# Altium footprint library ICs.PcbLib: 52 footprints (part 1 of 4)
Each footprint in its own frame and in the unit in brackets; x right, y up, seen from the top. Pads: shape width x height; smd on the part's side, far side on the other; paste and mask are expansions set on the pad; w line width, h text height; cw(c..) or ccw(c..) is an arc to the next point about the centre after c.
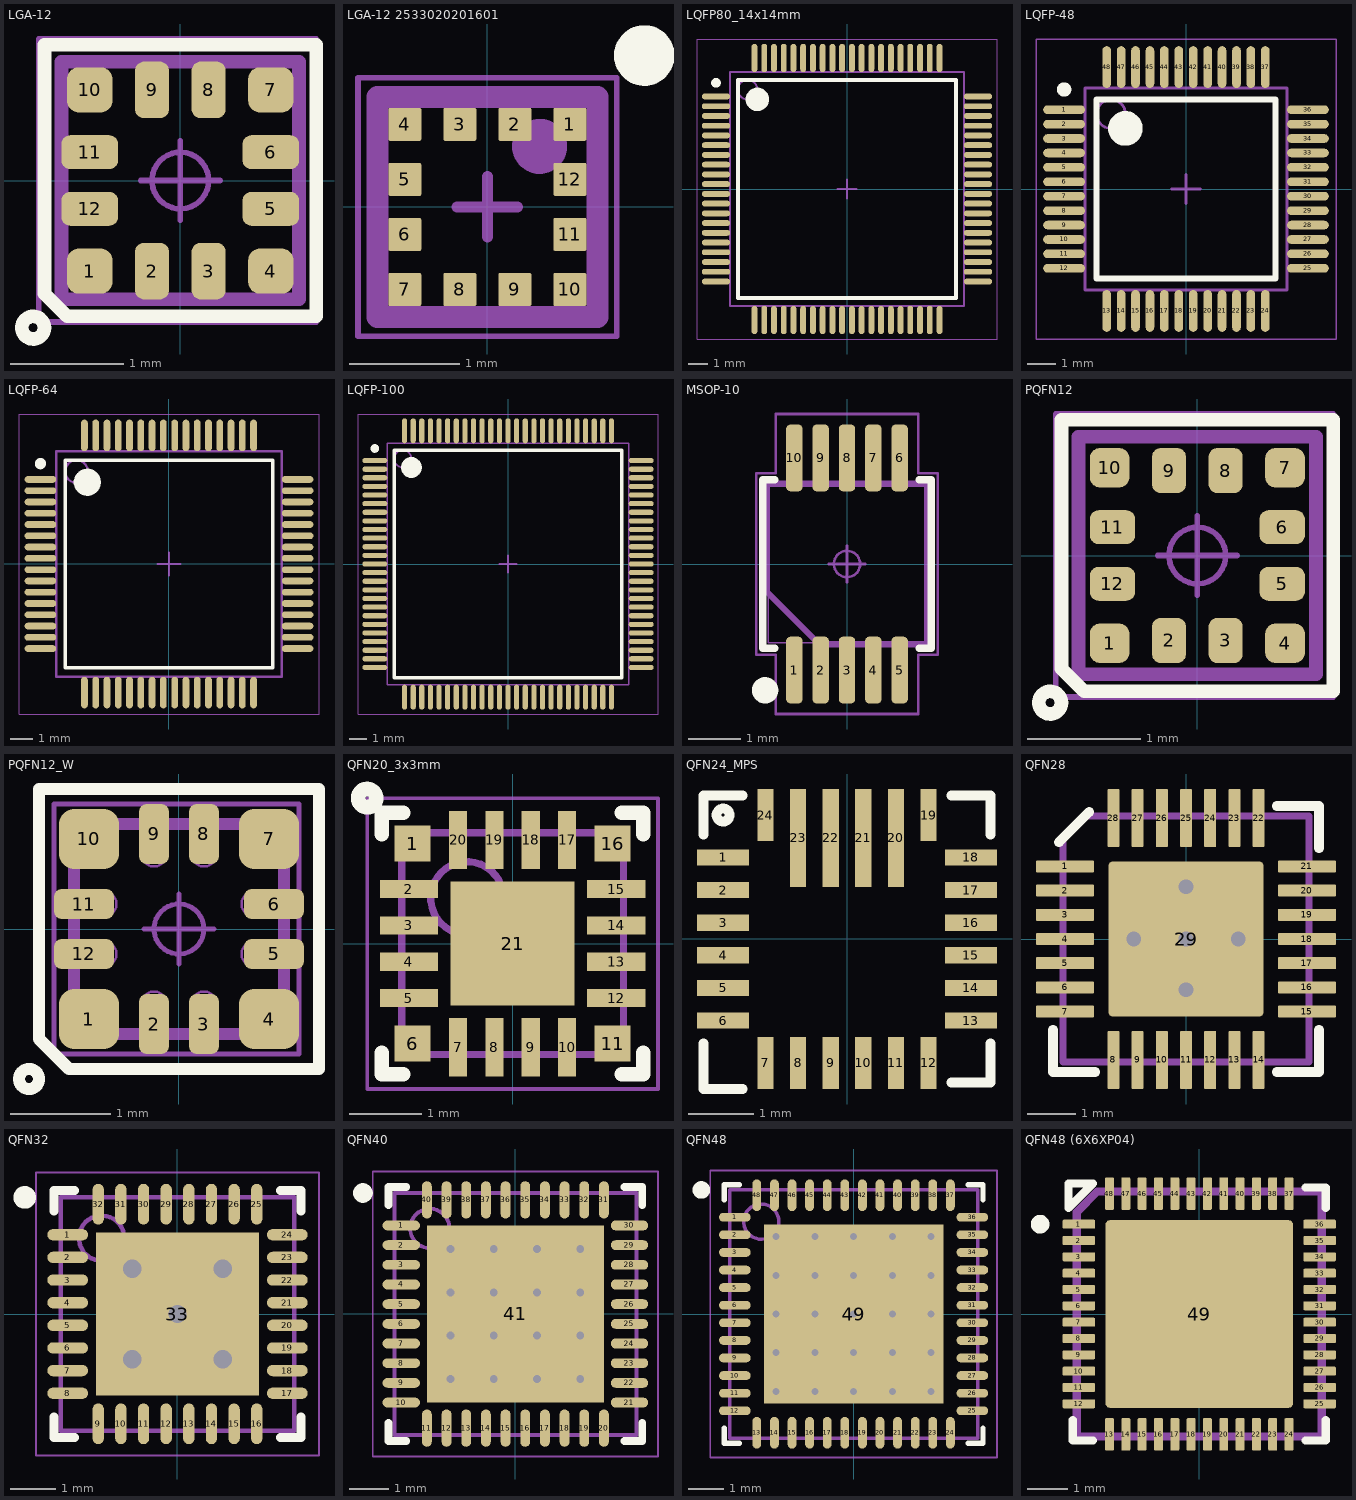
[diagram p0: the footprints below, top view; thin cyan lines are the x and y axes]

## LGA-12 [mm] "2x2 mm accelerometer"
pads (12):
  rrect51% 0.4x0.4 smd: 1(-0.8,-0.8) 4(0.8,-0.8) 7(0.8,0.8) 10(-0.8,0.8)
  rrect51% 0.3x0.5 smd: 2(-0.25,-0.8) 3(0.25,-0.8) 8(0.25,0.8) 9(-0.25,0.8)
  rrect51% 0.5x0.3 smd: 5(0.8,-0.25) 6(0.8,0.25) 11(-0.8,0.25) 12(-0.8,-0.25)
Top Overlay:
  circle w0.12: c-1.3,-1.3 r0.1
  lines w0.12: -1.2,-1 -1.2,1.2 1.2,1.2 1.2,-1.2 -1,-1.2 -1.2,-1
Mechanical 11:
  lines w0.12: -1.05,-1.05 -1.05,1.05 1.05,1.05 1.05,-1.05 -1.05,-1.05
Mechanical 12:
  lines w0.025: -1,-1 -1,1 1,1 1,-1 -1,-1 ; -0.9,-0.375 -0.75,-0.375 ccw(c-0.75,-0.25) -0.75,-0.125 -0.9,-0.125 -0.9,-0.375 ; -0.9,0.125 -0.75,0.125 ccw(c-0.75,0.25) -0.75,0.375 -0.9,0.375 -0.9,0.125 ; -0.875,-0.9 -0.875,-0.75 cw(c-0.75,-0.75) -0.625,-0.75 -0.625,-0.9 -0.875,-0.9 ; -0.875,0.75 ccw(c-0.75,0.75) -0.625,0.75 -0.625,0.9 -0.875,0.9 -0.875,0.75 ; -0.375,-0.9 -0.375,-0.75 cw(c-0.25,-0.75) -0.125,-0.75 -0.125,-0.9 -0.375,-0.9 ; -0.375,0.75 ccw(c-0.25,0.75) -0.125,0.75 -0.125,0.9 -0.375,0.9 -0.375,0.75 ; 0.125,-0.9 0.125,-0.75 cw(c0.25,-0.75) 0.375,-0.75 0.375,-0.9 0.125,-0.9 ; 0.125,0.75 ccw(c0.25,0.75) 0.375,0.75 0.375,0.9 0.125,0.9 0.125,0.75 ; 0.625,-0.9 0.625,-0.75 cw(c0.75,-0.75) 0.875,-0.75 0.875,-0.9 0.625,-0.9 ; 0.625,0.75 ccw(c0.75,0.75) 0.875,0.75 0.875,0.9 0.625,0.9 0.625,0.75 ; 0.75,-0.375 cw(c0.75,-0.25) 0.75,-0.125 0.9,-0.125 0.9,-0.375 0.75,-0.375 ; 0.75,0.125 cw(c0.75,0.25) 0.75,0.375 0.9,0.375 0.9,0.125 0.75,0.125
Mechanical 15:
  circle w0.05: c0,0 r0.25
  lines w0.05: -0.35,0 0.35,0 ; 0,-0.35 0,0.35 ; -1.25,-1.25 -1.25,1.25 1.2,1.25 1.2,-1.25 -1.25,-1.25
3D body "PQFN12P50_200X200X70L27X25.STEP": height 0.7, standoff 0, extent -1,-1 1,1

## LGA-12 2533020201601 [mm]
pads (12):
  rrect10% 0.3x0.3 smd paste-2539.97 mask+0.03: 1(0.75,0.75) 2(0.25,0.75) 3(-0.25,0.75) 4(-0.75,0.75) 5(-0.75,0.25) 6(-0.75,-0.25) 7(-0.75,-0.75) 8(-0.25,-0.75) 9(0.25,-0.75) 10(0.75,-0.75) 11(0.75,-0.25) 12(0.75,0.25)
Top Overlay:
  circle w0.3: c1.425,1.375 r0.125
Top Paste:
  circle w0.15: c-0.75,0.75 r0.075
  circle w0.15: c-0.25,-0.75 r0.075
  circle w0.15: c0.75,-0.75 r0.075
  circle w0.15: c0.25,-0.75 r0.075
  circle w0.15: c0.75,0.75 r0.075
  circle w0.15: c0.25,0.75 r0.075
  circle w0.15: c-0.25,0.75 r0.075
  circle w0.15: c0.75,0.25 r0.075
  circle w0.15: c0.75,-0.25 r0.075
  circle w0.15: c-0.75,-0.75 r0.075
  circle w0.15: c-0.75,0.25 r0.075
  circle w0.15: c-0.75,-0.25 r0.075
Top Courtyard:
  lines w0.05: -1.175,-1.175 -1.175,1.175 1.175,1.175 1.175,-1.175 -1.175,-1.175
Top Component Center:
  lines w0.1: -0.275,0 0.275,0 ; 0,-0.275 0,0.275
Top Component Outline:
  lines w0.05: -1,-1 1,-1 1,1 -1,1 -1,-1
Top Assembly:
  circle w0.3: c0.475,0.55 r0.1
  lines w0.2: -1,-1 -1,1 1,1 1,-1 -1,-1
Top Designator:
  text ".Designator" at -2.435,-0.25 h1.3
Top Value:
  text ".Comment" at -2.213,-0.335 h1.3
3D body "User Library-lga-2x2x0_9.step": height 0.96, standoff 0.01, extent -1,-1 1,1

## LQFP80_14x14mm [mm] "TSQFP, 80-Leads, Body 12,00x12,00mm, Pitch 0,50mm, IPC Medium Density"
height 1.6
pads (80):
  oval 1.45x0.3 smd: 1(-6.725,4.75) 2(-6.725,4.25) 3(-6.725,3.75) 4(-6.725,3.25) 5(-6.725,2.75) 6(-6.725,2.25) 7(-6.725,1.75) 8(-6.725,1.25) 9(-6.725,0.75) 10(-6.725,0.25) 11(-6.725,-0.25) 12(-6.725,-0.75) 13(-6.725,-1.25) 14(-6.725,-1.75) 15(-6.725,-2.25) 16(-6.725,-2.75) 17(-6.725,-3.25) 18(-6.725,-3.75) 19(-6.725,-4.25) 20(-6.725,-4.75) 41(6.725,-4.75) 42(6.725,-4.25) 43(6.725,-3.75) 44(6.725,-3.25) 45(6.725,-2.75) 46(6.725,-2.25) 47(6.725,-1.75) 48(6.725,-1.25) 49(6.725,-0.75) 50(6.725,-0.25) 51(6.725,0.25) 52(6.725,0.75) 53(6.725,1.25) 54(6.725,1.75) 55(6.725,2.25) 56(6.725,2.75) 57(6.725,3.25) 58(6.725,3.75) 59(6.725,4.25) 60(6.725,4.75)
  oval 0.3x1.45 smd: 21(-4.75,-6.725) 22(-4.25,-6.725) 23(-3.75,-6.725) 24(-3.25,-6.725) 25(-2.75,-6.725) 26(-2.25,-6.725) 27(-1.75,-6.725) 28(-1.25,-6.725) 29(-0.75,-6.725) 30(-0.25,-6.725) 31(0.25,-6.725) 32(0.75,-6.725) 33(1.25,-6.725) 34(1.75,-6.725) 35(2.25,-6.725) 36(2.75,-6.725) 37(3.25,-6.725) 38(3.75,-6.725) 39(4.25,-6.725) 40(4.75,-6.725) 61(4.75,6.725) 62(4.25,6.725) 63(3.75,6.725) 64(3.25,6.725) 65(2.75,6.725) 66(2.25,6.725) 67(1.75,6.725) 68(1.25,6.725) 69(0.75,6.725) 70(0.25,6.725) 71(-0.25,6.725) 72(-0.75,6.725) 73(-1.25,6.725) 74(-1.75,6.725) 75(-2.25,6.725) 76(-2.75,6.725) 77(-3.25,6.725) 78(-3.75,6.725) 79(-4.25,6.725) 80(-4.75,6.725)
Top Overlay:
  circle w0.6: c-4.6,4.6 r0.3
  circle w0.25: c-6.725,5.45 r0.125
  lines w0.2: -5.6,-5.6 5.6,-5.6 5.6,5.6 -5.6,5.6 -5.6,-5.6
Mechanical 13:
  circle w0.1: c-5.1,5.1 r0.5
  lines w0.1: -6,-6 6,-6 6,6 -6,6 -6,-6
Mechanical 15:
  lines w0.05: -7.7,-7.7 7.7,-7.7 7.7,7.7 -7.7,7.7 -7.7,-7.7
  lines w0.1: -0.5,0 0.5,0 ; 0,-0.5 0,0.5
3D body "LQFP-80_12x12mm_P0.5mm.step": height 1.5, standoff 0, extent -7,-7 7,7

## LQFP-48 [mm] "TSQFP, 48-Leads, Body 7,00x7,00mm, Pitch 0,50mm, IPC Medium Density"
height 1.6
pads (48):
  oval 1.45x0.3 smd: 1(-4.225,2.75) 2(-4.225,2.25) 3(-4.225,1.75) 4(-4.225,1.25) 5(-4.225,0.75) 6(-4.225,0.25) 7(-4.225,-0.25) 8(-4.225,-0.75) 9(-4.225,-1.25) 10(-4.225,-1.75) 11(-4.225,-2.25) 12(-4.225,-2.75) 25(4.225,-2.75) 26(4.225,-2.25) 27(4.225,-1.75) 28(4.225,-1.25) 29(4.225,-0.75) 30(4.225,-0.25) 31(4.225,0.25) 32(4.225,0.75) 33(4.225,1.25) 34(4.225,1.75) 35(4.225,2.25) 36(4.225,2.75)
  oval 0.3x1.45 smd: 13(-2.75,-4.225) 14(-2.25,-4.225) 15(-1.75,-4.225) 16(-1.25,-4.225) 17(-0.75,-4.225) 18(-0.25,-4.225) 19(0.25,-4.225) 20(0.75,-4.225) 21(1.25,-4.225) 22(1.75,-4.225) 23(2.25,-4.225) 24(2.75,-4.225) 37(2.75,4.225) 38(2.25,4.225) 39(1.75,4.225) 40(1.25,4.225) 41(0.75,4.225) 42(0.25,4.225) 43(-0.25,4.225) 44(-0.75,4.225) 45(-1.25,4.225) 46(-1.75,4.225) 47(-2.25,4.225) 48(-2.75,4.225)
Top Overlay:
  circle w0.6: c-2.1,2.1 r0.3
  circle w0.25: c-4.225,3.45 r0.125
  lines w0.2: -3.1,-3.1 3.1,-3.1 3.1,3.1 -3.1,3.1 -3.1,-3.1
Mechanical 13:
  circle w0.1: c-2.6,2.6 r0.5
  lines w0.1: -3.5,-3.5 3.5,-3.5 3.5,3.5 -3.5,3.5 -3.5,-3.5
Mechanical 15:
  lines w0.05: -5.2,-5.2 5.2,-5.2 5.2,5.2 -5.2,5.2 -5.2,-5.2
  lines w0.1: -0.5,0 0.5,0 ; 0,-0.5 0,0.5
3D body "LQFP-48_7x7mm_P0.5mm.step": height 1.5, standoff 0, extent -4.5,-4.5 4.5,4.5

## LQFP-64 [mm] "TSQFP, 64-Leads, Body 10,00x10,00mm, Pitch 0,50mm, IPC Medium Density"
height 1.2
pads (64):
  oval 1.4x0.3 smd: 1(-5.7,3.75) 2(-5.7,3.25) 3(-5.7,2.75) 4(-5.7,2.25) 5(-5.7,1.75) 6(-5.7,1.25) 7(-5.7,0.75) 8(-5.7,0.25) 9(-5.7,-0.25) 10(-5.7,-0.75) 11(-5.7,-1.25) 12(-5.7,-1.75) 13(-5.7,-2.25) 14(-5.7,-2.75) 15(-5.7,-3.25) 16(-5.7,-3.75) 33(5.7,-3.75) 34(5.7,-3.25) 35(5.7,-2.75) 36(5.7,-2.25) 37(5.7,-1.75) 38(5.7,-1.25) 39(5.7,-0.75) 40(5.7,-0.25) 41(5.7,0.25) 42(5.7,0.75) 43(5.7,1.25) 44(5.7,1.75) 45(5.7,2.25) 46(5.7,2.75) 47(5.7,3.25) 48(5.7,3.75)
  oval 0.3x1.4 smd: 17(-3.75,-5.7) 18(-3.25,-5.7) 19(-2.75,-5.7) 20(-2.25,-5.7) 21(-1.75,-5.7) 22(-1.25,-5.7) 23(-0.75,-5.7) 24(-0.25,-5.7) 25(0.25,-5.7) 26(0.75,-5.7) 27(1.25,-5.7) 28(1.75,-5.7) 29(2.25,-5.7) 30(2.75,-5.7) 31(3.25,-5.7) 32(3.75,-5.7) 49(3.75,5.7) 50(3.25,5.7) 51(2.75,5.7) 52(2.25,5.7) 53(1.75,5.7) 54(1.25,5.7) 55(0.75,5.7) 56(0.25,5.7) 57(-0.25,5.7) 58(-0.75,5.7) 59(-1.25,5.7) 60(-1.75,5.7) 61(-2.25,5.7) 62(-2.75,5.7) 63(-3.25,5.7) 64(-3.75,5.7)
Top Overlay:
  circle w0.6: c-3.625,3.625 r0.3
  circle w0.25: c-5.7,4.45 r0.125
  lines w0.15: -4.6,-4.6 4.6,-4.6 4.6,4.6 -4.6,4.6 -4.6,-4.6
Mechanical 13:
  circle w0.1: c-4.1,4.1 r0.5
  lines w0.1: -5,-5 5,-5 5,5 -5,5 -5,-5
Mechanical 15:
  lines w0.05: -6.65,-6.65 6.65,-6.65 6.65,6.65 -6.65,6.65 -6.65,-6.65
  lines w0.1: -0.5,0 0.5,0 ; 0,-0.5 0,0.5
3D body "LQFP-64_10x10mm_P0.5mm.step": height 1.5, standoff 0, extent -6,-6 6,6

## LQFP-100 [mm] "TSQFP, 100-Leads, Body 14,00x14,00mm, Pitch 0,50mm, IPC Medium Density"
height 1.6
pads (100):
  oval 1.45x0.3 smd: 1(-7.725,6) 2(-7.725,5.5) 3(-7.725,5) 4(-7.725,4.5) 5(-7.725,4) 6(-7.725,3.5) 7(-7.725,3) 8(-7.725,2.5) 9(-7.725,2) 10(-7.725,1.5) 11(-7.725,1) 12(-7.725,0.5) 13(-7.725,0) 14(-7.725,-0.5) 15(-7.725,-1) 16(-7.725,-1.5) 17(-7.725,-2) 18(-7.725,-2.5) 19(-7.725,-3) 20(-7.725,-3.5) 21(-7.725,-4) 22(-7.725,-4.5) 23(-7.725,-5) 24(-7.725,-5.5) 25(-7.725,-6) 51(7.725,-6) 52(7.725,-5.5) 53(7.725,-5) 54(7.725,-4.5) 55(7.725,-4) 56(7.725,-3.5) 57(7.725,-3) 58(7.725,-2.5) 59(7.725,-2) 60(7.725,-1.5) 61(7.725,-1) 62(7.725,-0.5) 63(7.725,0) 64(7.725,0.5) 65(7.725,1) 66(7.725,1.5) 67(7.725,2) 68(7.725,2.5) 69(7.725,3) 70(7.725,3.5) 71(7.725,4) 72(7.725,4.5) 73(7.725,5) 74(7.725,5.5) 75(7.725,6)
  oval 0.3x1.45 smd: 26(-6,-7.725) 27(-5.5,-7.725) 28(-5,-7.725) 29(-4.5,-7.725) 30(-4,-7.725) 31(-3.5,-7.725) 32(-3,-7.725) 33(-2.5,-7.725) 34(-2,-7.725) 35(-1.5,-7.725) 36(-1,-7.725) 37(-0.5,-7.725) 38(0,-7.725) 39(0.5,-7.725) 40(1,-7.725) 41(1.5,-7.725) 42(2,-7.725) 43(2.5,-7.725) 44(3,-7.725) 45(3.5,-7.725) 46(4,-7.725) 47(4.5,-7.725) 48(5,-7.725) 49(5.5,-7.725) 50(6,-7.725) 76(6,7.725) 77(5.5,7.725) 78(5,7.725) 79(4.5,7.725) 80(4,7.725) 81(3.5,7.725) 82(3,7.725) 83(2.5,7.725) 84(2,7.725) 85(1.5,7.725) 86(1,7.725) 87(0.5,7.725) 88(0,7.725) 89(-0.5,7.725) 90(-1,7.725) 91(-1.5,7.725) 92(-2,7.725) 93(-2.5,7.725) 94(-3,7.725) 95(-3.5,7.725) 96(-4,7.725) 97(-4.5,7.725) 98(-5,7.725) 99(-5.5,7.725) 100(-6,7.725)
Top Overlay:
  circle w0.25: c-7.725,6.7 r0.125
  circle w0.6: c-5.6,5.6 r0.3
  lines w0.2: -6.6,-6.6 -6.6,6.6 6.6,6.6 6.6,-6.6 -6.6,-6.6
Mechanical 13:
  circle w0.1: c-6.1,6.1 r0.5
  lines w0.1: -7,-7 -7,7 7,7 7,-7 -7,-7
Mechanical 15:
  lines w0.05: -8.7,-8.7 -8.7,8.7 8.7,8.7 8.7,-8.7 -8.7,-8.7
  lines w0.1: -0.5,0 0.5,0 ; 0,-0.5 0,0.5
3D body "LQFP-100_14x14mm_P0.5mm.step": height 1.5, standoff 0, extent -8,-8 8,8

## MSOP-10 [mm] "Small Outline Pkg (SOP), 0.50 mm pitch; 10 pin, 3.00 mm L X 3.00 mm W X 1.10 mm H body"
height 1.1
pads (10):
  rrect52% 0.31x1.27 smd: 1(-1,-2.015) 2(-0.5,-2.015) 3(0,-2.015) 4(0.5,-2.015) 5(1,-2.015) 6(1,2.015) 7(0.5,2.015) 8(0,2.015) 9(-0.5,2.015) 10(-1,2.015)
Top Overlay:
  circle w0.25: c-1.555,-2.4 r0.125
  lines w0.15: -1.38,-1.6 -1.6,-1.6 -1.6,1.6 -1.38,1.6 ; 1.38,-1.6 1.6,-1.6 1.6,1.6 1.38,1.6
Mechanical 9:
  lines w0.12: -1.525,-0.525 -1.525,1.525 1.525,1.525 1.525,-1.525 -0.525,-1.525 -1.525,-0.525
Mechanical 15:
  lines w0.05: -1.725,-1.725 -1.355,-1.725 -1.355,-2.85 1.355,-2.85 1.355,-1.725 1.725,-1.725 1.725,1.725 1.355,1.725 1.355,2.85 -1.355,2.85 -1.355,1.725 -1.725,1.725 -1.725,-1.725
Bottom Courtyard:
  circle w0.05: c0,0 r0.25
  lines w0.05: -0.35,0 0.35,0 ; 0,-0.35 0,0.35
Bottom Value:
  lines w0.025: -1.5,-1.5 1.5,-1.5 1.5,1.5 -1.5,1.5 -1.5,-1.5 ; -1.11,-2.425 -1.11,-1.825 -0.89,-1.825 -0.89,-2.425 -1.11,-2.425 ; -1.11,1.825 -1.11,2.425 -0.89,2.425 -0.89,1.825 -1.11,1.825 ; -0.61,-2.425 -0.61,-1.825 -0.39,-1.825 -0.39,-2.425 -0.61,-2.425 ; -0.61,1.825 -0.61,2.425 -0.39,2.425 -0.39,1.825 -0.61,1.825 ; -0.11,-2.425 -0.11,-1.825 0.11,-1.825 0.11,-2.425 -0.11,-2.425 ; -0.11,1.825 -0.11,2.425 0.11,2.425 0.11,1.825 -0.11,1.825 ; 0.39,-2.425 0.39,-1.825 0.61,-1.825 0.61,-2.425 0.39,-2.425 ; 0.39,1.825 0.39,2.425 0.61,2.425 0.61,1.825 0.39,1.825 ; 0.89,-2.425 0.89,-1.825 1.11,-1.825 1.11,-2.425 0.89,-2.425 ; 0.89,1.825 0.89,2.425 1.11,2.425 1.11,1.825 0.89,1.825
3D body "MSOP-10.STEP": height 1.1, standoff 0, extent -1.5,-2.425 1.5,2.425

## PQFN12 [mm] "Pullback Quad Flat No-Lead (PQFN), 0.50 mm pitch; square, 4 pin X 2 pin, 2.00 mm L X 2.00 mm W X 0.70 mm H body"
height 0.7
pads (12):
  rrect51% 0.35x0.35 smd: 1(-0.775,-0.775) 4(0.775,-0.775) 7(0.775,0.775) 10(-0.775,0.775)
  rrect51% 0.3x0.4 smd: 2(-0.25,-0.75) 3(0.25,-0.75) 8(0.25,0.75) 9(-0.25,0.75)
  rrect51% 0.4x0.3 smd: 5(0.75,-0.25) 6(0.75,0.25) 11(-0.75,0.25) 12(-0.75,-0.25)
Top Overlay:
  circle w0.12: c-1.3,-1.3 r0.1
  lines w0.12: -1.2,-1 -1,-1.2 1.2,-1.2 1.2,1.2 -1.2,1.2 -1.2,-1
Mechanical 11:
  lines w0.12: -1.05,-1.05 1.05,-1.05 1.05,1.05 -1.05,1.05 -1.05,-1.05
Mechanical 12:
  lines w0.025: -1,-1 1,-1 1,1 -1,1 -1,-1 ; -0.9,-0.375 -0.9,-0.125 -0.75,-0.125 cw(c-0.75,-0.25) -0.75,-0.375 -0.9,-0.375 ; -0.9,0.125 -0.9,0.375 -0.75,0.375 cw(c-0.75,0.25) -0.75,0.125 -0.9,0.125 ; -0.875,-0.9 -0.625,-0.9 -0.625,-0.75 ccw(c-0.75,-0.75) -0.875,-0.75 -0.875,-0.9 ; -0.875,0.75 ccw(c-0.75,0.75) -0.625,0.75 -0.625,0.9 -0.875,0.9 -0.875,0.75 ; -0.375,-0.9 -0.125,-0.9 -0.125,-0.75 ccw(c-0.25,-0.75) -0.375,-0.75 -0.375,-0.9 ; -0.375,0.75 ccw(c-0.25,0.75) -0.125,0.75 -0.125,0.9 -0.375,0.9 -0.375,0.75 ; 0.125,-0.9 0.375,-0.9 0.375,-0.75 ccw(c0.25,-0.75) 0.125,-0.75 0.125,-0.9 ; 0.125,0.75 ccw(c0.25,0.75) 0.375,0.75 0.375,0.9 0.125,0.9 0.125,0.75 ; 0.625,-0.9 0.875,-0.9 0.875,-0.75 ccw(c0.75,-0.75) 0.625,-0.75 0.625,-0.9 ; 0.625,0.75 ccw(c0.75,0.75) 0.875,0.75 0.875,0.9 0.625,0.9 0.625,0.75 ; 0.75,-0.375 cw(c0.75,-0.25) 0.75,-0.125 0.9,-0.125 0.9,-0.375 0.75,-0.375 ; 0.75,0.125 cw(c0.75,0.25) 0.75,0.375 0.9,0.375 0.9,0.125 0.75,0.125
Mechanical 15:
  circle w0.05: c0,0 r0.25
  lines w0.05: -0.35,0 0.35,0 ; 0,-0.35 0,0.35 ; -1.25,-1.25 1.2,-1.25 1.2,1.25 -1.25,1.25 -1.25,-1.25
3D body "PQFN12P50_200X200X70L27X25.STEP": height 0.7, standoff 0, extent -1,-1 1,1

## PQFN12_W [mm]
pads (12):
  rrect51% 0.6x0.6 smd: 1(-0.9,-0.9) 4(0.9,-0.9) 7(0.9,0.9) 10(-0.9,0.9)
  rrect51% 0.3x0.6 smd: 2(-0.25,-0.95) 3(0.25,-0.95) 8(0.25,0.95) 9(-0.25,0.95)
  rrect51% 0.6x0.3 smd: 5(0.95,-0.25) 6(0.95,0.25) 11(-0.95,0.25) 12(-0.95,-0.25)
Top Overlay:
  circle w0.12: c-1.5,-1.5 r0.1
  lines w0.12: -1.4,-1.1 -1.4,1.4 1.4,1.4 1.4,-1.4 -1.1,-1.4 -1.4,-1.1
Mechanical 11:
  lines w0.12: -1.05,-1.05 -1.05,1.05 1.05,1.05 1.05,-1.05 -1.05,-1.05
Mechanical 12:
  lines w0.025: -1,-1 -1,1 1,1 1,-1 -1,-1 ; -0.9,-0.375 -0.75,-0.375 ccw(c-0.75,-0.25) -0.75,-0.125 -0.9,-0.125 -0.9,-0.375 ; -0.9,0.125 -0.75,0.125 ccw(c-0.75,0.25) -0.75,0.375 -0.9,0.375 -0.9,0.125 ; -0.875,-0.9 -0.875,-0.75 cw(c-0.75,-0.75) -0.625,-0.75 -0.625,-0.9 -0.875,-0.9 ; -0.875,0.75 ccw(c-0.75,0.75) -0.625,0.75 -0.625,0.9 -0.875,0.9 -0.875,0.75 ; -0.375,-0.9 -0.375,-0.75 cw(c-0.25,-0.75) -0.125,-0.75 -0.125,-0.9 -0.375,-0.9 ; -0.375,0.75 ccw(c-0.25,0.75) -0.125,0.75 -0.125,0.9 -0.375,0.9 -0.375,0.75 ; 0.125,-0.9 0.125,-0.75 cw(c0.25,-0.75) 0.375,-0.75 0.375,-0.9 0.125,-0.9 ; 0.125,0.75 ccw(c0.25,0.75) 0.375,0.75 0.375,0.9 0.125,0.9 0.125,0.75 ; 0.625,-0.9 0.625,-0.75 cw(c0.75,-0.75) 0.875,-0.75 0.875,-0.9 0.625,-0.9 ; 0.625,0.75 ccw(c0.75,0.75) 0.875,0.75 0.875,0.9 0.625,0.9 0.625,0.75 ; 0.75,-0.375 cw(c0.75,-0.25) 0.75,-0.125 0.9,-0.125 0.9,-0.375 0.75,-0.375 ; 0.75,0.125 cw(c0.75,0.25) 0.75,0.375 0.9,0.375 0.9,0.125 0.75,0.125
Mechanical 15:
  circle w0.05: c0,0 r0.25
  lines w0.05: -0.35,0 0.35,0 ; 0,-0.35 0,0.35 ; -1.25,-1.25 -1.25,1.25 1.2,1.25 1.2,-1.25 -1.25,-1.25
3D body "PQFN12P50_200X200X70L27X25.STEP": height 0.7, standoff 0, extent -1,-1 1,1

## QFN20_3x3mm [mm] "QFN, 20-Leads, Body 3,00x3,00mm, Pitch 0,50mm, Thermal Pad 1,70x1,70mm, IPC Medium Density"
height 0.6
pads (21):
  rect 0.5x0.5 smd: 1(-1.375,1.375) 6(-1.375,-1.375) 11(1.375,-1.375) 16(1.375,1.375)
  rect 0.8x0.25 smd: 2(-1.425,0.75) 3(-1.425,0.25) 4(-1.425,-0.25) 5(-1.425,-0.75) 12(1.425,-0.75) 13(1.425,-0.25) 14(1.425,0.25) 15(1.425,0.75)
  rect 0.25x0.8 smd: 7(-0.75,-1.425) 8(-0.25,-1.425) 9(0.25,-1.425) 10(0.75,-1.425) 17(0.75,1.425) 18(0.25,1.425) 19(-0.25,1.425) 20(-0.75,1.425)
  rect 1.7x1.7 smd: 21(0,0)
Top Overlay:
  circle w0.2: c-2,2 r0.125
  lines w0.2: -1.8,-1.5 -1.8,-1.8 -1.5,-1.8 ; -1.8,1.5 -1.8,1.8 -1.5,1.8 ; 1.5,-1.8 1.8,-1.8 1.8,-1.5 ; 1.5,1.8 1.8,1.8 1.8,1.5
Mechanical 13:
  circle w0.1: c-0.625,0.625 r0.5
  lines w0.1: -1.525,-1.525 1.525,-1.525 1.525,1.525 -1.525,1.525 -1.525,-1.525
Mechanical 15:
  lines w0.05: -2,-2 2,-2 2,2 -2,2 -2,-2
  lines w0.1: -0.5,0 0.5,0 ; 0,-0.5 0,0.5
3D body "QFN50P300X300X60_HS-21N.step": height 0.6, standoff 0, extent -1.526,-1.526 1.526,1.526

## QFN24_MPS [mm]
pads (24):
  rect 0.8x0.25 smd: 1(-1.9,1.25) 2(-1.9,0.75) 3(-1.9,0.25) 4(-1.9,-0.25) 5(-1.9,-0.75) 6(-1.9,-1.25) 13(1.9,-1.25) 14(1.9,-0.75) 15(1.9,-0.25) 16(1.9,0.25) 17(1.9,0.75) 18(1.9,1.25)
  rect 0.25x0.8 smd: 7(-1.25,-1.9) 8(-0.75,-1.9) 9(-0.25,-1.9) 10(0.25,-1.9) 11(0.75,-1.9) 12(1.25,-1.9) 19(1.25,1.9) 24(-1.25,1.9)
  rect 0.25x1.5 smd: 20(0.75,1.55) 21(0.25,1.55) 22(-0.25,1.55) 23(-0.75,1.55)
Top Overlay:
  circle w0.15: c-1.9,1.9 r0.1
  lines w0.15: -2.2,-1.6 -2.2,-2.3 -1.6,-2.3 ; -2.2,1.6 -2.2,2.2 -1.6,2.2 ; 1.6,-2.2 2.2,-2.2 2.2,-1.6 ; 1.6,2.2 2.2,2.2 2.2,1.6
3D body "QFN-24_4x4mm_P0.5mm.step": height 0.77, standoff 0, extent -2,-2 2,2

## QFN28 [mm]
pads (29):
  rrect20% 1.2x0.25 smd: 1(-2.5,1.5) 2(-2.5,1) 3(-2.5,0.5) 4(-2.5,0) 5(-2.5,-0.5) 6(-2.5,-1) 7(-2.5,-1.5) 15(2.5,-1.5) 16(2.5,-1) 17(2.5,-0.5) 18(2.5,0) 19(2.5,0.5) 20(2.5,1) 21(2.5,1.5)
  rrect20% 0.25x1.2 smd: 8(-1.5,-2.5) 9(-1,-2.5) 10(-0.5,-2.5) 11(0,-2.5) 12(0.5,-2.5) 13(1,-2.5) 14(1.5,-2.5) 22(1.5,2.5) 23(1,2.5) 24(0.5,2.5) 25(0,2.5) 26(-0.5,2.5) 27(-1,2.5) 28(-1.5,2.5)
  rrect5% 3.2x3.2 smd paste-4: 29(0,0)
via 0,0 diameter 0.6 hole 0.3
via -1.075,0 diameter 0.6 hole 0.3
via 1.075,0 diameter 0.6 hole 0.3
via 0,1.075 diameter 0.6 hole 0.3
via 0,-1.05 diameter 0.6 hole 0.3
Top Overlay:
  lines w0.2: -2.75,-1.875 -2.75,-2.75 -1.875,-2.75 ; -2.625,2 -2,2.625 ; 1.875,-2.75 2.75,-2.75 2.75,-1.875 ; 1.875,2.75 2.75,2.75 2.75,1.875
Top Paste:
  region: 0.75,-0.325 0.665,-0.325 0.509,-0.39 0.39,-0.509 0.325,-0.665 0.325,-0.835 0.39,-0.991 0.509,-1.11 0.665,-1.175 0.75,-1.175 0.835,-1.175 0.991,-1.11 1.11,-0.991 1.175,-0.835 1.175,-0.665 1.11,-0.509 0.991,-0.39 0.835,-0.325
  region: -0.75,-0.325 -0.835,-0.325 -0.991,-0.39 -1.11,-0.509 -1.175,-0.665 -1.175,-0.835 -1.11,-0.991 -0.991,-1.11 -0.835,-1.175 -0.75,-1.175 -0.665,-1.175 -0.509,-1.11 -0.39,-0.991 -0.325,-0.835 -0.325,-0.665 -0.39,-0.509 -0.509,-0.39 -0.665,-0.325
  region: -0.75,1.175 -0.835,1.175 -0.991,1.11 -1.11,0.991 -1.175,0.835 -1.175,0.665 -1.11,0.509 -0.991,0.39 -0.835,0.325 -0.75,0.325 -0.665,0.325 -0.509,0.39 -0.39,0.509 -0.325,0.665 -0.325,0.835 -0.39,0.991 -0.509,1.11 -0.665,1.175
  region: 0.75,1.175 0.665,1.175 0.509,1.11 0.39,0.991 0.325,0.835 0.325,0.665 0.39,0.509 0.509,0.39 0.665,0.325 0.75,0.325 0.835,0.325 0.991,0.39 1.11,0.509 1.175,0.665 1.175,0.835 1.11,0.991 0.991,1.11 0.835,1.175
Top Assembly:
  lines w0.15: -2.54,-2.54 2.54,-2.54 2.54,2.54 -2.085,2.54 -2.54,2.085 -2.54,-2.54
3D body "User Library-QFN28-0_5.STEP": height 1, standoff 0, extent -2.5,-2.5 2.5,2.5

## QFN32 [mm] "QFN, 32-Leads, Body 5,00x5,00mm, Pitch 0,50mm, Thermal Pad 3,60x3,60mm, IPC Medium Density"
height 1
pads (33):
  oval 0.9x0.25 smd: 1(-2.425,1.75) 2(-2.425,1.25) 3(-2.425,0.75) 4(-2.425,0.25) 5(-2.425,-0.25) 6(-2.425,-0.75) 7(-2.425,-1.25) 8(-2.425,-1.75) 17(2.425,-1.75) 18(2.425,-1.25) 19(2.425,-0.75) 20(2.425,-0.25) 21(2.425,0.25) 22(2.425,0.75) 23(2.425,1.25) 24(2.425,1.75)
  oval 0.25x0.9 smd: 9(-1.75,-2.425) 10(-1.25,-2.425) 11(-0.75,-2.425) 12(-0.25,-2.425) 13(0.25,-2.425) 14(0.75,-2.425) 15(1.25,-2.425) 16(1.75,-2.425) 25(1.75,2.425) 26(1.25,2.425) 27(0.75,2.425) 28(0.25,2.425) 29(-0.25,2.425) 30(-0.75,2.425) 31(-1.25,2.425) 32(-1.75,2.425)
  rect 3.6x3.6 smd: 33(0,0)
via 0,0 diameter 0.8 hole 0.4
via 1,-1 diameter 0.8 hole 0.4
via 1,1 diameter 0.8 hole 0.4
via -1,1 diameter 0.8 hole 0.4
via -1,-1 diameter 0.8 hole 0.4
Top Overlay:
  circle w0.25: c-3.375,2.575 r0.125
  lines w0.2: -2.725,-2.275 -2.725,-2.725 -2.275,-2.725 ; -2.725,2.275 -2.725,2.725 -2.275,2.725 ; 2.275,-2.725 2.725,-2.725 2.725,-2.275 ; 2.275,2.725 2.725,2.725 2.725,2.275
Mechanical 13:
  circle w0.1: c-1.675,1.675 r0.5
  lines w0.1: -2.575,-2.575 2.575,-2.575 2.575,2.575 -2.575,2.575 -2.575,-2.575
Mechanical 15:
  lines w0.05: -3.125,-3.125 3.125,-3.125 3.125,3.125 -3.125,3.125 -3.125,-3.125
  lines w0.1: -0.5,0 0.5,0 ; 0,-0.5 0,0.5
3D body "QFN-32-1EP_5x5mm_P0.5mm_EP3.45x3.45mm.step": height 0.77, standoff 0, extent -2.5,-2.5 2.5,2.5

## QFN40 [mm] "QFN, 40-Leads, Body 6,00x6,00mm, Pitch 0,50mm, Thermal Pad 4,50x4,50mm, IPC Medium Density"
height 1
pads (41):
  oval 0.95x0.25 smd: 1(-2.9,2.25) 2(-2.9,1.75) 3(-2.9,1.25) 4(-2.9,0.75) 5(-2.9,0.25) 6(-2.9,-0.25) 7(-2.9,-0.75) 8(-2.9,-1.25) 9(-2.9,-1.75) 10(-2.9,-2.25) 21(2.9,-2.25) 22(2.9,-1.75) 23(2.9,-1.25) 24(2.9,-0.75) 25(2.9,-0.25) 26(2.9,0.25) 27(2.9,0.75) 28(2.9,1.25) 29(2.9,1.75) 30(2.9,2.25)
  oval 0.25x0.95 smd: 11(-2.25,-2.9) 12(-1.75,-2.9) 13(-1.25,-2.9) 14(-0.75,-2.9) 15(-0.25,-2.9) 16(0.25,-2.9) 17(0.75,-2.9) 18(1.25,-2.9) 19(1.75,-2.9) 20(2.25,-2.9) 31(2.25,2.9) 32(1.75,2.9) 33(1.25,2.9) 34(0.75,2.9) 35(0.25,2.9) 36(-0.25,2.9) 37(-0.75,2.9) 38(-1.25,2.9) 39(-1.75,2.9) 40(-2.25,2.9)
  rect 4.5x4.5 smd: 41(0,0)
via 1.65,-1.65 diameter 0.5 hole 0.2
via 0.55,-1.65 diameter 0.5 hole 0.2
via -0.55,-1.65 diameter 0.5 hole 0.2
via -1.65,-1.65 diameter 0.5 hole 0.2
via 1.65,-0.55 diameter 0.5 hole 0.2
via 0.55,-0.55 diameter 0.5 hole 0.2
via -0.55,-0.55 diameter 0.5 hole 0.2
via -1.65,-0.55 diameter 0.5 hole 0.2
via 1.65,0.55 diameter 0.5 hole 0.2
via 0.55,0.55 diameter 0.5 hole 0.2
via -0.55,0.55 diameter 0.5 hole 0.2
via -1.65,0.55 diameter 0.5 hole 0.2
via 1.65,1.65 diameter 0.5 hole 0.2
via 0.55,1.65 diameter 0.5 hole 0.2
via -0.55,1.65 diameter 0.5 hole 0.2
via -1.65,1.65 diameter 0.5 hole 0.2
Top Overlay:
  circle w0.25: c-3.875,3.075 r0.125
  lines w0.2: -3.225,-2.775 -3.225,-3.225 -2.775,-3.225 ; -3.225,2.775 -3.225,3.225 -2.775,3.225 ; 2.775,-3.225 3.225,-3.225 3.225,-2.775 ; 2.775,3.225 3.225,3.225 3.225,2.775
Mechanical 13:
  circle w0.1: c-2.175,2.175 r0.5
  lines w0.1: -3.075,-3.075 3.075,-3.075 3.075,3.075 -3.075,3.075 -3.075,-3.075
Mechanical 15:
  lines w0.05: -3.625,-3.625 3.625,-3.625 3.625,3.625 -3.625,3.625 -3.625,-3.625
  lines w0.1: -0.5,0 0.5,0 ; 0,-0.5 0,0.5
3D body "QFN-40-1EP_6x6mm_P0.5mm_EP4.6x4.6mm.step": height 1, standoff 0, extent -3,-3 3,3

## QFN48 [mm] "QFN, 48-Leads, Body 7,00x7,00mm, Pitch 0,50mm, Thermal Pad 5,10x5,10mm, IPC Medium Density"
height 1
pads (49):
  oval 0.9x0.25 smd: 1(-3.375,2.75) 2(-3.375,2.25) 3(-3.375,1.75) 4(-3.375,1.25) 5(-3.375,0.75) 6(-3.375,0.25) 7(-3.375,-0.25) 8(-3.375,-0.75) 9(-3.375,-1.25) 10(-3.375,-1.75) 11(-3.375,-2.25) 12(-3.375,-2.75) 25(3.375,-2.75) 26(3.375,-2.25) 27(3.375,-1.75) 28(3.375,-1.25) 29(3.375,-0.75) 30(3.375,-0.25) 31(3.375,0.25) 32(3.375,0.75) 33(3.375,1.25) 34(3.375,1.75) 35(3.375,2.25) 36(3.375,2.75)
  oval 0.25x0.9 smd: 13(-2.75,-3.375) 14(-2.25,-3.375) 15(-1.75,-3.375) 16(-1.25,-3.375) 17(-0.75,-3.375) 18(-0.25,-3.375) 19(0.25,-3.375) 20(0.75,-3.375) 21(1.25,-3.375) 22(1.75,-3.375) 23(2.25,-3.375) 24(2.75,-3.375) 37(2.75,3.375) 38(2.25,3.375) 39(1.75,3.375) 40(1.25,3.375) 41(0.75,3.375) 42(0.25,3.375) 43(-0.25,3.375) 44(-0.75,3.375) 45(-1.25,3.375) 46(-1.75,3.375) 47(-2.25,3.375) 48(-2.75,3.375)
  rect 5.1x5.1 smd: 49(0,0)
via 2.2,-2.2 diameter 0.5 hole 0.2
via 1.1,-2.2 diameter 0.5 hole 0.2
via 0,-2.2 diameter 0.5 hole 0.2
via -1.1,-2.2 diameter 0.5 hole 0.2
via -2.2,-2.2 diameter 0.5 hole 0.2
via 2.2,-1.1 diameter 0.5 hole 0.2
via 1.1,-1.1 diameter 0.5 hole 0.2
via 0,-1.1 diameter 0.5 hole 0.2
via -1.1,-1.1 diameter 0.5 hole 0.2
via -2.2,-1.1 diameter 0.5 hole 0.2
via 2.2,0 diameter 0.5 hole 0.2
via 1.1,0 diameter 0.5 hole 0.2
via 0,0 diameter 0.5 hole 0.2
via -1.1,0 diameter 0.5 hole 0.2
via -2.2,0 diameter 0.5 hole 0.2
via 2.2,1.1 diameter 0.5 hole 0.2
via 1.1,1.1 diameter 0.5 hole 0.2
via 0,1.1 diameter 0.5 hole 0.2
via -1.1,1.1 diameter 0.5 hole 0.2
via -2.2,1.1 diameter 0.5 hole 0.2
via 2.2,2.2 diameter 0.5 hole 0.2
via 1.1,2.2 diameter 0.5 hole 0.2
via 0,2.2 diameter 0.5 hole 0.2
via -1.1,2.2 diameter 0.5 hole 0.2
via -2.2,2.2 diameter 0.5 hole 0.2
Top Overlay:
  circle w0.25: c-4.325,3.525 r0.125
  lines w0.15: -3.675,-3.25 -3.675,-3.675 -3.25,-3.675 ; -3.675,3.25 -3.675,3.675 -3.25,3.675 ; 3.25,-3.675 3.675,-3.675 3.675,-3.25 ; 3.25,3.675 3.675,3.675 3.675,3.25
Mechanical 13:
  circle w0.1: c-2.625,2.625 r0.5
  lines w0.1: -3.525,-3.525 3.525,-3.525 3.525,3.525 -3.525,3.525 -3.525,-3.525
Mechanical 15:
  lines w0.05: -4.075,-4.075 4.075,-4.075 4.075,4.075 -4.075,4.075 -4.075,-4.075
  lines w0.1: -0.5,0 0.5,0 ; 0,-0.5 0,0.5
3D body "QFN-48-1EP_7x7mm_P0.5mm_EP5.15x5.15mm.step": height 0.77, standoff 0, extent -3.5,-3.5 3.5,3.5

## QFN48 (6X6XP04) [mm]
pads (49):
  rrect30% 0.8x0.22 smd paste-0.015 mask+0.07: 1(-2.95,2.2) 2(-2.95,1.8) 3(-2.95,1.4) 4(-2.95,1) 5(-2.95,0.6) 6(-2.95,0.2) 7(-2.95,-0.2) 8(-2.95,-0.6) 9(-2.95,-1) 10(-2.95,-1.4) 11(-2.95,-1.8) 12(-2.95,-2.2) 25(2.95,-2.2) 26(2.95,-1.8) 27(2.95,-1.4) 28(2.95,-1) 29(2.95,-0.6) 30(2.95,-0.2) 31(2.95,0.2) 32(2.95,0.6) 33(2.95,1) 34(2.95,1.4) 35(2.95,1.8) 36(2.95,2.2)
  rrect30% 0.22x0.8 smd paste-0.015 mask+0.07: 13(-2.2,-2.95) 14(-1.8,-2.95) 15(-1.4,-2.95) 16(-1,-2.95) 17(-0.6,-2.95) 18(-0.2,-2.95) 19(0.2,-2.95) 20(0.6,-2.95) 21(1,-2.95) 22(1.4,-2.95) 23(1.8,-2.95) 24(2.2,-2.95) 37(2.2,2.95) 38(1.8,2.95) 39(1.4,2.95) 40(1,2.95) 41(0.6,2.95) 42(0.2,2.95) 43(-0.2,2.95) 44(-0.6,2.95) 45(-1,2.95) 46(-1.4,2.95) 47(-1.8,2.95) 48(-2.2,2.95)
  rrect5% 4.6x4.6 smd paste-5 mask+0.07: 49(0,0)
Top Overlay:
  circle w0.254: c-3.9,2.2 r0.1
  lines w0.2: -3.1,-2.6 -3.1,-3.1 -2.6,-3.1 ; 2.6,-3.1 3.1,-3.1 3.1,-2.6 ; 2.6,3.1 3.1,3.1 3.1,2.6 ; -3.2,2.6 -3.2,3.2 -2.6,3.2 -3.2,2.6
Top Paste:
  drawing of 9 lines, arcs and shapes, not listed
Top Assembly:
  lines w0.2: -3,-3 3,-3 3,3 -2.5,3 -3,2.5 -3,-3
3D body "User Library-QFN48.step": height 0.85, standoff -0.02, extent -3.02,-3.015 3.02,3.025